# Altium footprint library HDMI.PcbLib: 1 footprints
Each footprint in its own frame and in the unit in brackets; x right, y up, seen from the top. Pads: shape width x height; smd on the part's side, far side on the other; paste and mask are expansions set on the pad; w line width, h text height; cw(c..) or ccw(c..) is an arc to the next point about the centre after c.
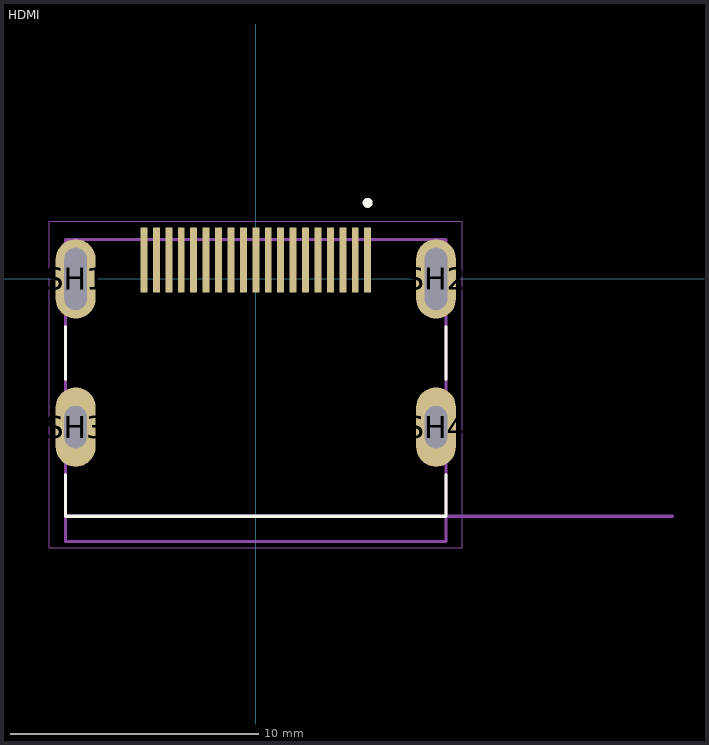
[diagram p0: the footprint, top view; thin cyan lines are the x and y axes]

## HDMI [mm]
height 6.18
pads (23):
  rect 0.28x2.6 smd: 1(4.5,0.76) 2(4,0.76) 3(3.5,0.76) 4(3,0.76) 5(2.5,0.76) 6(2,0.76) 7(1.5,0.76) 8(1,0.76) 9(0.5,0.76) 10(0,0.76) 11(-0.5,0.76) 12(-1,0.76) 13(-1.5,0.76) 14(-2,0.76) 15(-2.5,0.76) 16(-3,0.76) 17(-3.5,0.76) 18(-4,0.76) 19(-4.5,0.76)
  oval 1.6x3.2 hole 0.9 slot 2.5 at 90 deg: SH1(-7.25,0) SH2(7.25,0)
  oval 1.6x3.2 hole 0.9 slot 1.7 at 90 deg: SH3(-7.25,-5.96) SH4(7.25,-5.96)
Top Overlay:
  circle w0.2: c4.5,3.06 r0.1
  lines w0.127: -7.65,-7.88 -7.65,-9.55 7.65,-9.55 7.65,-7.88 ; -7.65,-4.04 -7.65,-1.92 ; 7.65,-4.04 7.65,-1.92
Mechanical 13:
  circle w0.2: c4.5,3.06 r0.1
  lines w0.127: 16.75,-9.55 -7.65,-9.55 ; -7.65,-9.55 -7.65,-10.56 7.65,-10.56 7.65,1.58 -7.65,1.58 -7.65,-9.55
  text "PCB EDGE" at 8.7,-9.1 h1.27
Mechanical 15:
  lines w0.05: -8.3,-10.81 -8.3,2.31 8.3,2.31 8.3,-10.81 -8.3,-10.81
3D body "step_temp.STEP": height 6.17, standoff -2.13, extent -7.65,-10.566 7.65,1.574